# Altium footprint library DIODES_SOT523.PcbLib: 1 footprints
Each footprint in its own frame and in the unit in brackets; x right, y up, seen from the top. Pads: shape width x height; smd on the part's side, far side on the other; paste and mask are expansions set on the pad; w line width, h text height; cw(c..) or ccw(c..) is an arc to the next point about the centre after c.
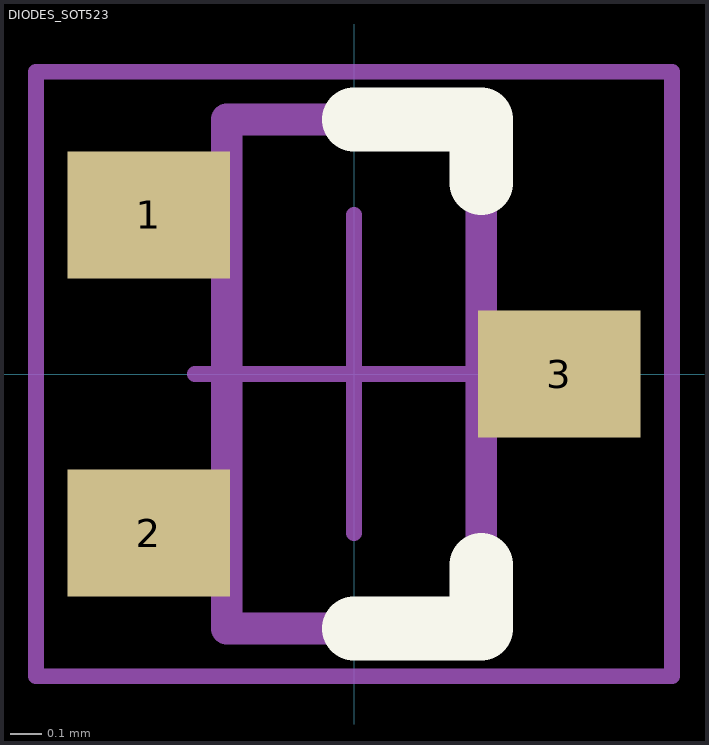
[diagram p0: the footprint, top view; thin cyan lines are the x and y axes]

## DIODES_SOT523 [mm] "DIODES_SOT523"
height 0.8
pads (3):
  rect 0.51x0.4 smd mask+0.05: 1(-0.645,0.5) 2(-0.645,-0.5) 3(0.645,0)
Top Overlay:
  lines w0.2: 0,-0.8 0.4,-0.8 0.4,-0.6 ; 0,0.8 0.4,0.8 0.4,0.6
Mechanical 13:
  lines w0.1: -0.4,-0.8 0.4,-0.8 0.4,0.8 -0.4,0.8 -0.4,-0.8
Mechanical 15:
  lines w0.05: -0.5,0 0.5,0 ; 0,-0.5 0,0.5 ; -1,-0.95 -1,0.95 1,0.95 1,-0.95 -1,-0.95
3D body "DIODES_SOT523.stp": height 0.76, standoff -0.04, extent -0.796,-0.778 0.804,0.797